# Altium footprint library WLCSP.PcbLib: 9 footprints
Each footprint in its own frame and in the unit in brackets; x right, y up, seen from the top. Pads: shape width x height; smd on the part's side, far side on the other; paste and mask are expansions set on the pad; w line width, h text height; cw(c..) or ccw(c..) is an arc to the next point about the centre after c.
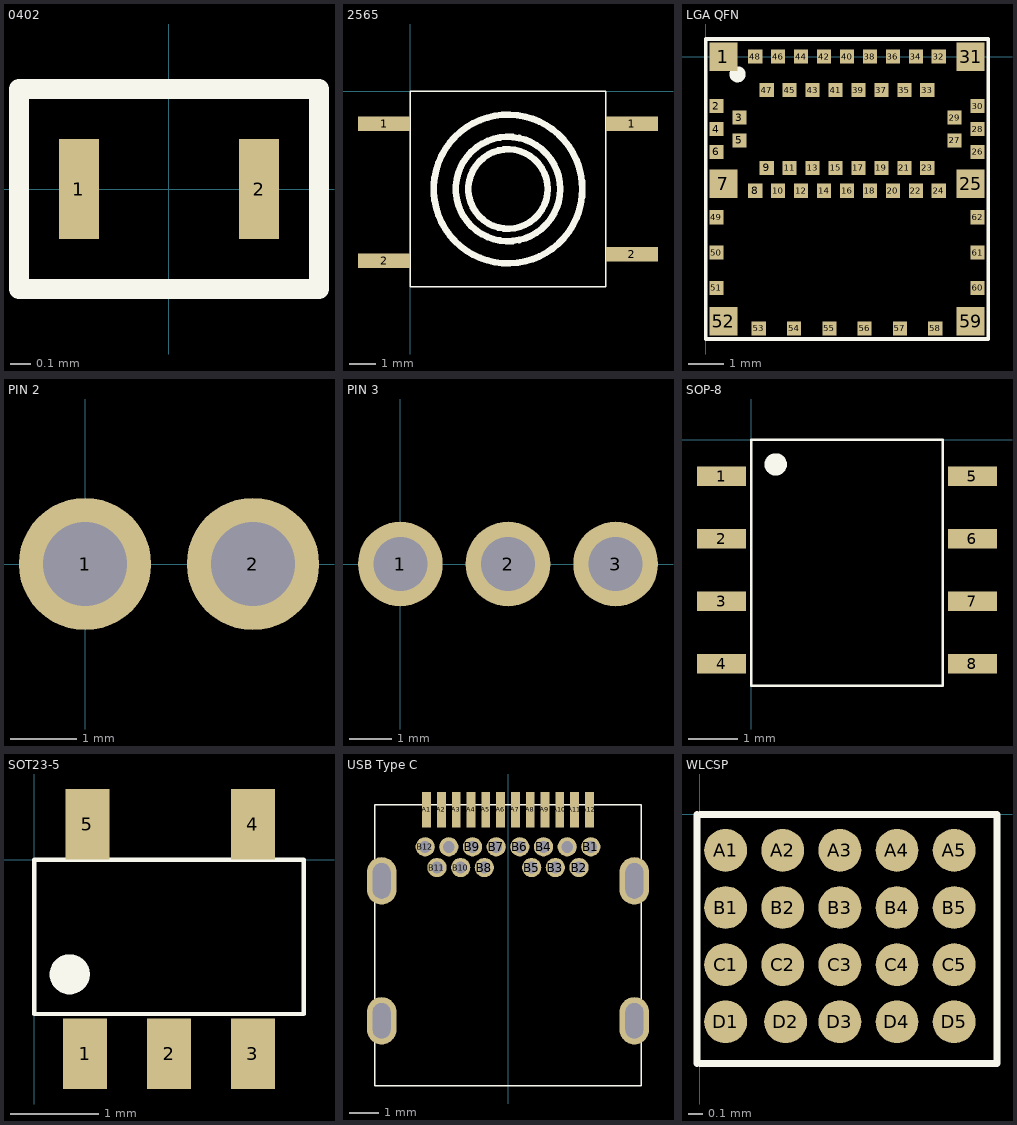
[diagram p0: the footprints below, top view; thin cyan lines are the x and y axes]

## 0402 [mm]
pads (2):
  rect 0.2x0.5 smd: 1(-0.45,0) 2(0.45,0)
Top Overlay:
  lines w0.1: -0.75,-0.5 -0.75,0.5 0.75,0.5 0.75,-0.5 -0.75,-0.5

## 2565 [mm]
pads (4):
  rect 2x0.55 smd: 1(-1,-1.25) 1(8.5,-1.25) 2(-1,-6.5) 2(8.5,-6.25)
Top Overlay:
  circle w0.254: c3.75,-3.75 r2.85
  circle w0.254: c3.75,-3.75 r1.521
  circle w0.254: c3.75,-3.75 r2
  lines w0.05: 0,-7.5 7.5,-7.5 7.5,0 0,0 0,-7.5

## LGA QFN [mm]
pads (62):
  rect 0.8x0.8 smd: 1(0.5,0) 7(0.5,-3.6) 25(7.5,-3.6) 31(7.5,0) 52(0.5,-7.5) 59(7.5,-7.5)
  rect 0.4x0.4 smd: 2(0.3,-1.4) 3(0.95,-1.725) 4(0.3,-2.05) 5(0.95,-2.375) 6(0.3,-2.7) 8(1.4,-3.8) 9(1.725,-3.15) 10(2.05,-3.8) 11(2.375,-3.15) 12(2.7,-3.8) 13(3.025,-3.15) 14(3.35,-3.8) 15(3.675,-3.15) 16(4,-3.8) 17(4.325,-3.15) 18(4.65,-3.8) 19(4.975,-3.15) 20(5.3,-3.8) 21(5.625,-3.15) 22(5.95,-3.8) 23(6.275,-3.15) 24(6.6,-3.8) 26(7.7,-2.7) 27(7.05,-2.375) 28(7.7,-2.05) 29(7.05,-1.725) 30(7.7,-1.4) 32(6.6,0) 33(6.275,-0.95) 34(5.95,0) 35(5.625,-0.95) 36(5.3,0) 37(4.975,-0.95) 38(4.65,0) 39(4.325,-0.95) 40(4,0) 41(3.675,-0.95) 42(3.35,0) 43(3.025,-0.95) 44(2.7,0) 45(2.375,-0.95) 46(2.05,0) 47(1.725,-0.95) 48(1.4,0) 49(0.3,-4.55) 50(0.3,-5.55) 51(0.3,-6.55) 53(1.5,-7.7) 54(2.5,-7.7) 55(3.5,-7.7) 56(4.5,-7.7) 57(5.5,-7.7) 58(6.5,-7.7) 60(7.7,-6.55) 61(7.7,-5.55) 62(7.7,-4.55)
Top Overlay:
  circle w0.254: c0.9,-0.5 r0.1
  lines w0.1: 0,-8 0,0.5 8,0.5 8,-8 0,-8

## PIN 2 [mm]
pads (2):
  round 2 hole 1.27: 1(0,0) 2(2.54,0)

## PIN 3 [mm]
pads (3):
  round 2 hole 1.27: 1(0,0) 2(2.54,0) 3(5.08,0)

## SOP-8 [mm]
pads (8):
  rect 1x0.4 smd: 1(-0.6,-0.74) 2(-0.6,-2.01) 3(-0.6,-3.28) 4(-0.6,-4.55) 5(4.5,-0.74) 6(4.5,-2.01) 7(4.5,-3.28) 8(4.5,-4.55)
Top Overlay:
  circle w0.254: c0.5,-0.5 r0.1
  lines w0.05: 0,-5 0,0 3.9,0 3.9,-5 0,-5

## SOT23-5 [mm]
pads (5):
  rect 0.5x0.8 smd: 1(0.575,-2.2) 2(1.525,-2.2) 3(2.475,-2.2) 4(2.475,0.4) 5(0.6,0.4)
Top Overlay:
  circle w0.254: c0.4,-1.3 r0.1
  lines w0.05: 0,-1.75 0,0 3.05,0 3.05,-1.75 0,-1.75

## USB Type C [mm]
pads (30):
  rect 0.3x1.2 smd: A1(-2.75,10.58) A2(-2.25,10.58) A3(-1.75,10.58) A4(-1.25,10.58) A5(-0.75,10.58) A6(-0.25,10.58) A7(0.25,10.58) A8(0.75,10.58) A9(1.25,10.58) A10(1.75,10.58) A11(2.25,10.58) A12(2.75,10.58)
  round 0.65 hole 0.4: B1(2.8,9.33) B2(2.4,8.63) B3(1.6,8.63) B4(1.2,9.33) B5(0.8,8.63) B6(0.4,9.33) B7(-0.4,9.33) B8(-0.8,8.63) B9(-1.2,9.33) B10(-1.6,8.63) B11(-2.4,8.63) B12(-2.8,9.33) ""(-2,9.33) ""(2,9.33)
  oval 1x1.6 hole 1.2 slot 0.6 at 0 deg: ""(-4.27,3.45) ""(-4.27,8.18) ""(4.27,3.45) ""(4.27,8.18)
Top Overlay:
  lines w0.05: -4.5,1.25 4.5,1.25 4.5,10.75 -4.5,10.75 -4.5,1.25

## WLCSP [mm]
pads (20):
  round 0.3 smd: A1(0.18,-0.252) A2(0.58,-0.252) A3(0.98,-0.252) A4(1.38,-0.252) A5(1.78,-0.252) B1(0.18,-0.652) B2(0.58,-0.652) B3(0.98,-0.652) B4(1.38,-0.652) B5(1.78,-0.652) C1(0.18,-1.052) C2(0.58,-1.052) C3(0.98,-1.052) C4(1.38,-1.052) C5(1.78,-1.052) D1(0.18,-1.452) D2(0.6,-1.452) D3(0.98,-1.452) D4(1.38,-1.452) D5(1.78,-1.452)
Top Overlay:
  lines w0.05: -0.02,-1.745 -0.02,0 ; 0,-1.745 2.08,-1.745 2.08,0 0,0